# EAGLE library part M06X2 (library zephod-components)
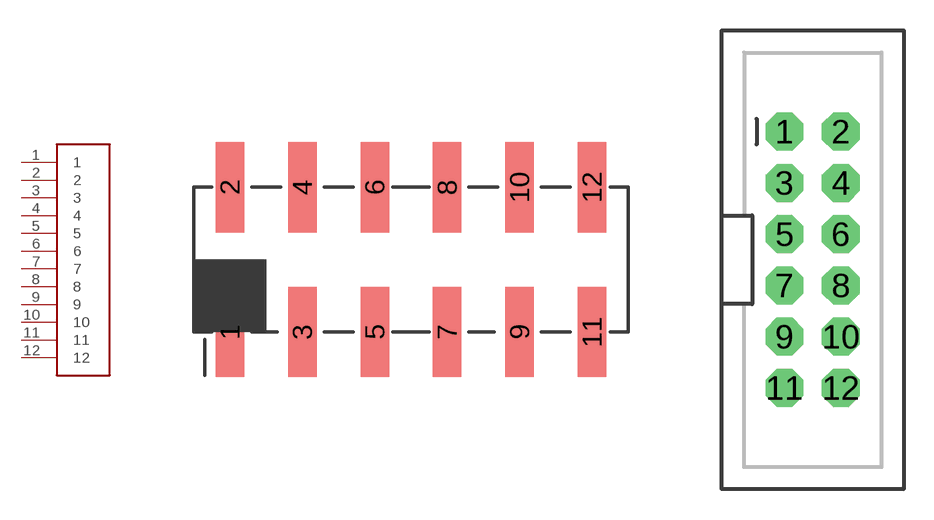
[diagram p10: symbol with the pads of 2X6_SMT_POSTS; footprints 2X6_SMT_POSTS, 2X6-SHROUDED_LOCK]

Designator prefix -

## M06X2  [2X6_SMT_POSTS]
1  1  out
2  2  out
3  3  out
4  4  out
5  5  out
6  6  out
7  7  out
8  8  out
9  9  out
10  10  out
11  11  out
12  12  out

## M06X2_LOCK  [2X6-SHROUDED_LOCK]
Pads as for 2X6_SMT_POSTS

## Footprint 2X6_SMT_POSTS (pad centres in mm)
smd 1 x 3.17: 1 -6.35,-2.54; 2 -6.35,2.54; 3 -3.81,-2.54; 4 -3.81,2.54; 5 -1.27,-2.54; 6 -1.27,2.54; 7 1.27,-2.54; 8 1.27,2.54; 9 3.81,-2.54; 10 3.81,2.54; 11 6.35,-2.54; 12 6.35,2.54

## Footprint 2X6-SHROUDED_LOCK (pad centres in mm)
drill 1.016 pad 1.88 octagon: 1 -1.397,6.35; 2 1.397,6.35; 3 -1.397,3.81; 4 1.397,3.81; 5 -1.397,1.27; 6 1.397,1.27; 7 -1.397,-1.27; 8 1.397,-1.27; 9 -1.397,-3.81; 10 1.397,-3.81; 11 -1.397,-6.35; 12 1.397,-6.35